# Altium schematic symbol library mini.SchLib: 2 symbols
Pins are listed as number, name and electrical type; pins without a type are passive.

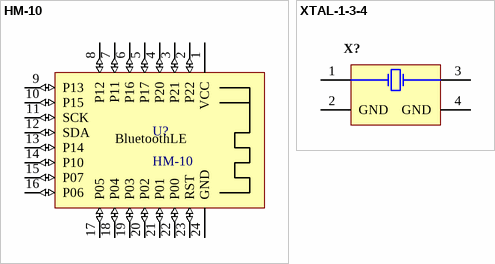
[diagram p0: symbols HM-10 to XTAL-1-3-4]

## HM-10
designator U?
Bluetooth Low Energy Module [JDY-08]
pins: 1 VCC (power), 2 P22 (io), 3 P21 (io), 4 P20 (io), 5 P17 (io), 6 P16 (io), 7 P11 (io), 8 P12 (io), 9 P13 (io), 10 P15 (io), 11 SCK (io), 12 SDA (io), 13 P14 (io), 14 P10 (io), 15 P07 (io), 16 P06 (io), 17 P05 (io), 18 P04 (io), 19 P03 (io), 20 P02 (io), 21 P01 (io), 22 P00 (io), 23 RST (io), 24 GND (power)
text: BluetoothLE

## XTAL-1-3-4
designator X?
pins: 1 X1, 2 GND (power), 3 X2, 4 GND (power)